# Altium schematic symbol library DIODE_2A1K.SchLib: 1 symbol
Pins are listed as number, name and electrical type; pins without a type are passive.

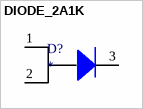
[diagram p0: symbol DIODE_2A1K]

## DIODE_2A1K
designator D?
pins: 1 A1, 2 A2, 3 K